# Altium footprint library CON10_50mil_TH_MALE_KEYD.PcbLib: 1 footprints
Each footprint in its own frame and in the unit in brackets; x right, y up, seen from the top. Pads: shape width x height; smd on the part's side, far side on the other; paste and mask are expansions set on the pad; w line width, h text height; cw(c..) or ccw(c..) is an arc to the next point about the centre after c.
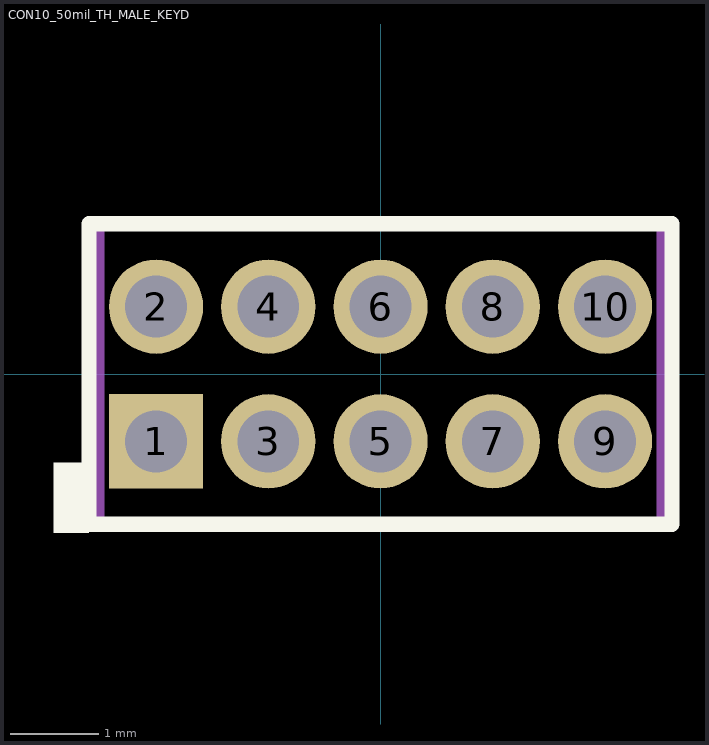
[diagram p0: the footprint, top view; thin cyan lines are the x and y axes]

## CON10_50mil_TH_MALE_KEYD [mil]
pads (10):
  rect 42x42 hole 27.56 mask+3.15: 1(-100,-30)
  round 42 hole 27.56 mask+3.15: 2(-100,30) 3(-50,-30) 4(-50,30) 5(0,-30) 6(0,30) 7(50,-30) 8(50,30) 9(100,-30) 10(100,30)
Top Overlay:
  region: -129.92,-70.87 -129.92,-39.37 -145.67,-39.37 -145.67,-70.87
  lines w6.69: -129.92,-66.93 129.92,-66.93 129.92,66.93 -129.92,66.93 -129.92,23.62 -129.92,-66.93
Mechanical 5:
  lines w3.94: -125,-66.93 125,-66.93 125,66.93 -125,66.93 -125,-66.93
  text ".Designator" at -145,90 h39.37
3D body "FTSH-105-01-F-D-K.stp": height 225, standoff -90, extent -124.99,-99.99 125,100.01